# Altium schematic symbol library MB0044A.01.A.1.SchLib: 1 symbol
Pins are listed as number, name and electrical type; pins without a type are passive.

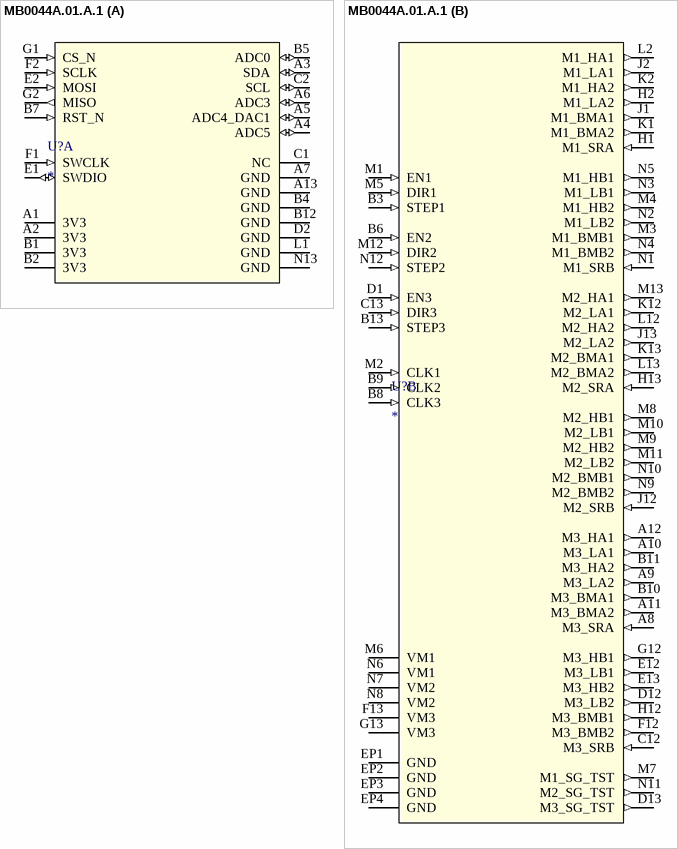
[diagram p0: symbol MB0044A.01.A.1]

## MB0044A.01.A.1
designator U?
part A pins: A1 3V3 (power), A2 3V3 (power), A3 SDA (io), A4 ADC5 (io), A5 ADC4_DAC1 (io), A6 ADC3 (io), A7 GND (power), A13 GND (power), B1 3V3 (power), B2 3V3 (power), B4 GND (power), B5 ADC0 (io), B7 RST_N (in), B12 GND (power), C1 NC (power), C2 SCL (io), D2 GND (power), E1 SWDIO (io), E2 MOSI (in), F1 SWCLK (in), F2 SCLK (in), G1 CS_N (in), G2 MISO (out), L1 GND (power), N13 GND (power)
part B pins: A8 M3_SRA (in), A9 M3_LA2 (out), A10 M3_LA1 (out), A11 M3_BMA2 (out), A12 M3_HA1 (out), B3 STEP1 (in), B6 EN2 (in), B8 CLK3 (in), B9 CLK2 (in), B10 M3_BMA1 (out), B11 M3_HA2 (out), B13 STEP3 (in), C12 M3_SRB (in), C13 DIR3 (in), D1 EN3 (in), D12 M3_LB2 (out), D13 M3_SG_TST (out), E12 M3_LB1 (out), E13 M3_HB2 (out), EP1 GND (power), EP2 GND (power), EP3 GND (power), EP4 GND (power), F12 M3_BMB2 (out), F13 VM3 (power), G12 M3_HB1 (out), G13 VM3 (power), H1 M1_SRA (in), H2 M1_LA2 (out), H12 M3_BMB1 (out), H13 M2_SRA (in), J1 M1_BMA1 (out), J2 M1_LA1 (out), J12 M2_SRB (in), J13 M2_LA2 (out), K1 M1_BMA2 (out), K2 M1_HA2 (out), K12 M2_LA1 (out), K13 M2_BMA1 (out), L2 M1_HA1 (out), L12 M2_HA2 (out), L13 M2_BMA2 (out), M1 EN1 (in), M2 CLK1 (in), M3 M1_BMB1 (out), M4 M1_HB2 (out), M5 DIR1 (in), M6 VM1 (power), M7 M1_SG_TST (out), M8 M2_HB1 (out), M9 M2_HB2 (out), M10 M2_LB1 (out), M11 M2_LB2 (out), M12 DIR2 (in), M13 M2_HA1 (out), N1 M1_SRB (in), N2 M1_LB2 (out), N3 M1_LB1 (out), N4 M1_BMB2 (out), N5 M1_HB1 (out), N6 VM1 (power), N7 VM2 (power), N8 VM2 (power), N9 M2_BMB2 (out), N10 M2_BMB1 (out), N11 M2_SG_TST (out), N12 STEP2 (in)